# EAGLE library part PLD20 (library doz)
Удвоенный 10-пиновый разъем
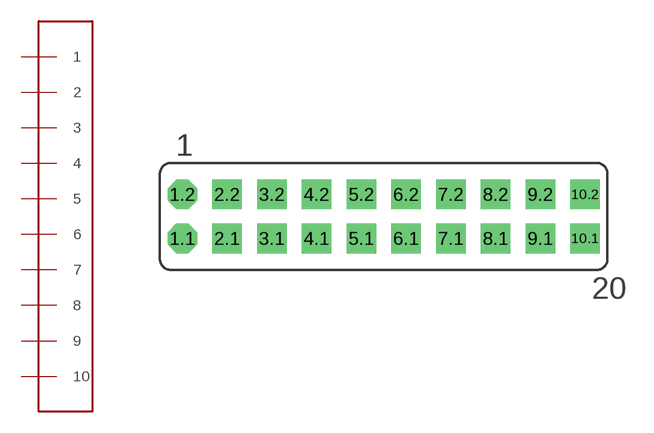
[diagram p7: symbol with the pads of PLD20; footprint PLD20]

Designator prefix XP

## PLD20_10PAIR  [PLD20]
1.1  1
1.2  1
2.1  2
2.2  2
3.1  3
3.2  3
4.1  4
4.2  4
5.1  5
5.2  5
6.1  6
6.2  6
7.1  7
7.2  7
8.1  8
8.2  8
9.1  9
9.2  9
10.1  10
10.2  10

## Footprint PLD20 (pad centres in mm)
drill 1 pad 1.676 octagon: 1.1 -11.43,-1.25; 1.2 -11.43,1.25
drill 1 pad 1.676 square: 2.1 -8.89,-1.25; 2.2 -8.89,1.25; 3.1 -6.35,-1.25; 3.2 -6.35,1.25; 4.1 -3.81,-1.25; 4.2 -3.81,1.25; 5.1 -1.27,-1.25; 5.2 -1.27,1.25; 6.1 1.27,-1.25; 6.2 1.27,1.25; 7.1 3.81,-1.25; 7.2 3.81,1.25; 8.1 6.35,-1.25; 8.2 6.35,1.25; 9.1 8.89,-1.25; 9.2 8.89,1.25; 10.1 11.43,-1.25; 10.2 11.43,1.25